# Altium schematic symbol library DI_LED_RGB.SchLib: 1 symbol
Pins are listed as number, name and electrical type; pins without a type are passive.

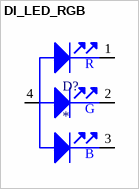
[diagram p0: symbol DI_LED_RGB]

## DI_LED_RGB
designator D?
pins: 1 C, 2 C, 3 C, 4 A
text: R; G; B